# Altium schematic symbol library Frost5000Beta_LIB_Otros_Sch.SchLib: 7 symbols
Pins are listed as number, name and electrical type; pins without a type are passive.

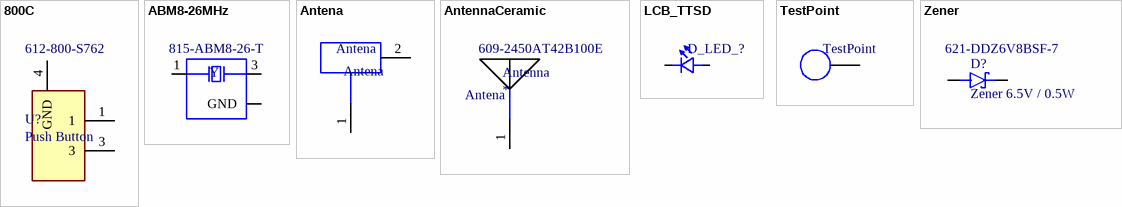
[diagram p0: symbols 800C to Zener]

## 800C
designator U?, comment Push Button  Supplier Part Number 1: 612-800-S762
Push Button 800C; Supplier 1: Mouser
footprint 800C Switch
pins: 1, 3, 4 GND

## ABM8-26MHz
designator Y  Supplier Part Number 1: 815-ABM8-26-T  (hidden comment: *)
26MHz Â±10ppm Crystal 10pF 50 Ohms 4-SMD, No Lead; MP: ABM8-26.000MHZ-10-1-U-T; MF: Abracon; Package: SMD-4 Abracon; SnapEDA_Link: https://www.snapeda.com/parts/ABM8-26.000MHZ-10-1-U-T/Abracon%20LLC/view-part/356267/?ref=snap; Digi-Key_Purchase_URL: https://www.digikey.com/product-detail/en/abracon-llc/ABM8-26.000MHZ-10-1-U-T/300-8230-1-ND/687923?utm_source=snapeda&utm_medium=aggregator&utm_campaign=symbol; Value: *; Digi-Key_Part_Number: 300-8230-1-ND; Supplier 1: Mouser
footprint ABM8-26_OSCSC320X250X100N (Crystal de 26MHz)
pins: 1, 2 GND (power), 3, 4 GND

## Antena
designator Antena  (value not drawn)
footprint Antena2 (Footprint Antena2)
pins: 1, 2 "GND"

## AntennaCeramic
designator Antenna  Supplier Part Number 1: 609-2450AT42B100E
Antena de Cerámica; Supplier 1: Mouser
footprint ANTENNA_CERAMIC (PCB CERAMIC ANTENNA)
pins: 1
text: Antena

## LCB_TTSD
designator D_LED_?  (value not drawn)
LED PLCC-2 -- LCB TTSD-T2V1-2J8L-Z; MF: Broadcom Limited; MP: HSMW-C191; SnapEDA_Link: https://www.snapeda.com/parts/HSMW-C191/Broadcom%20Limited/view-part/1840124/?ref=snap; Price: None; Value: *; Package: 0603 Broadcom; Availability: Unavailable
footprint LED_PLCC-2 (Footprint_LED_PLCC-2)
pins: 1 K, 2 A

## TestPoint
designator TestPoint  (no BOM)
footprint TestPoint (Via_TestPoint)
pins: 1

## Zener
designator D?, comment Zener 6.5V / 0.5W  Supplier Part Number 1: 621-DDZ6V8BSF-7
MF: Littelfuse; MP: SMF5.0AT1G; Value: *; Availability: Unavailable; Package: SOD-123 Littelfuse; Price: None; SnapEDA_Link: https://www.snapeda.com/parts/SMF5.0AT1G/Littelfuse/view-part/4502608/?ref=snap; Supplier 1: Mouser
footprint Zener-SOD323F (Fooprint Zener)
pins: A, C